# Altium schematic symbol library TPS3710DDCR.SchLib: 1 symbol
Pins are listed as number, name and electrical type; pins without a type are passive.

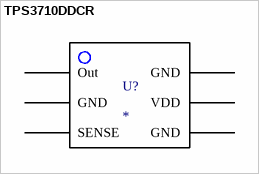
[diagram p0: symbol TPS3710DDCR]

## TPS3710DDCR
designator U?
footprint SOT23-6
pins: 1 Out, 2 GND, 3 SENSE, 4 GND, 5 VDD, 6 GND